# Altium schematic symbol library SFV14R-3STBE1HLF.SchLib: 1 symbol
Pins are listed as number, name and electrical type; pins without a type are passive.

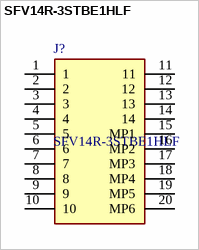
[diagram p0: symbol SFV14R-3STBE1HLF]

## SFV14R-3STBE1HLF
designator J?
0.50mm Flex Connector, SFV-R Series, 14 Position, Bottom Side Contact, Side Entry Surface Mount ZIF Connector, Halogen Free, Lead Free with Cable-Lock, Gold Flash; Manufacturer_Name: Amphenol Communications Solutions; Geometry.Height: 2mm; Mouser Part Number: *; Mouser Price/Stock: *; Manufacturer_Part_Number: SFV14R-3STBE1HLF; Datasheet Link: https://cdn.amphenol-cs.com/media/wysiwyg/files/drawing/10171071.pdf
footprint SFV14R3STBE1HLF
pins: 1, 2, 3, 4, 5, 6, 7, 8, 9, 10, 11, 12, 13, 14, 15 MP1, 16 MP2, 17 MP3, 18 MP4, 19 MP5, 20 MP6